# Altium footprint library FootPrintLib.PcbLib: 42 footprints (part 1 of 3)
Each footprint in its own frame and in the unit in brackets; x right, y up, seen from the top. Pads: shape width x height; smd on the part's side, far side on the other; paste and mask are expansions set on the pad; w line width, h text height; cw(c..) or ccw(c..) is an arc to the next point about the centre after c.
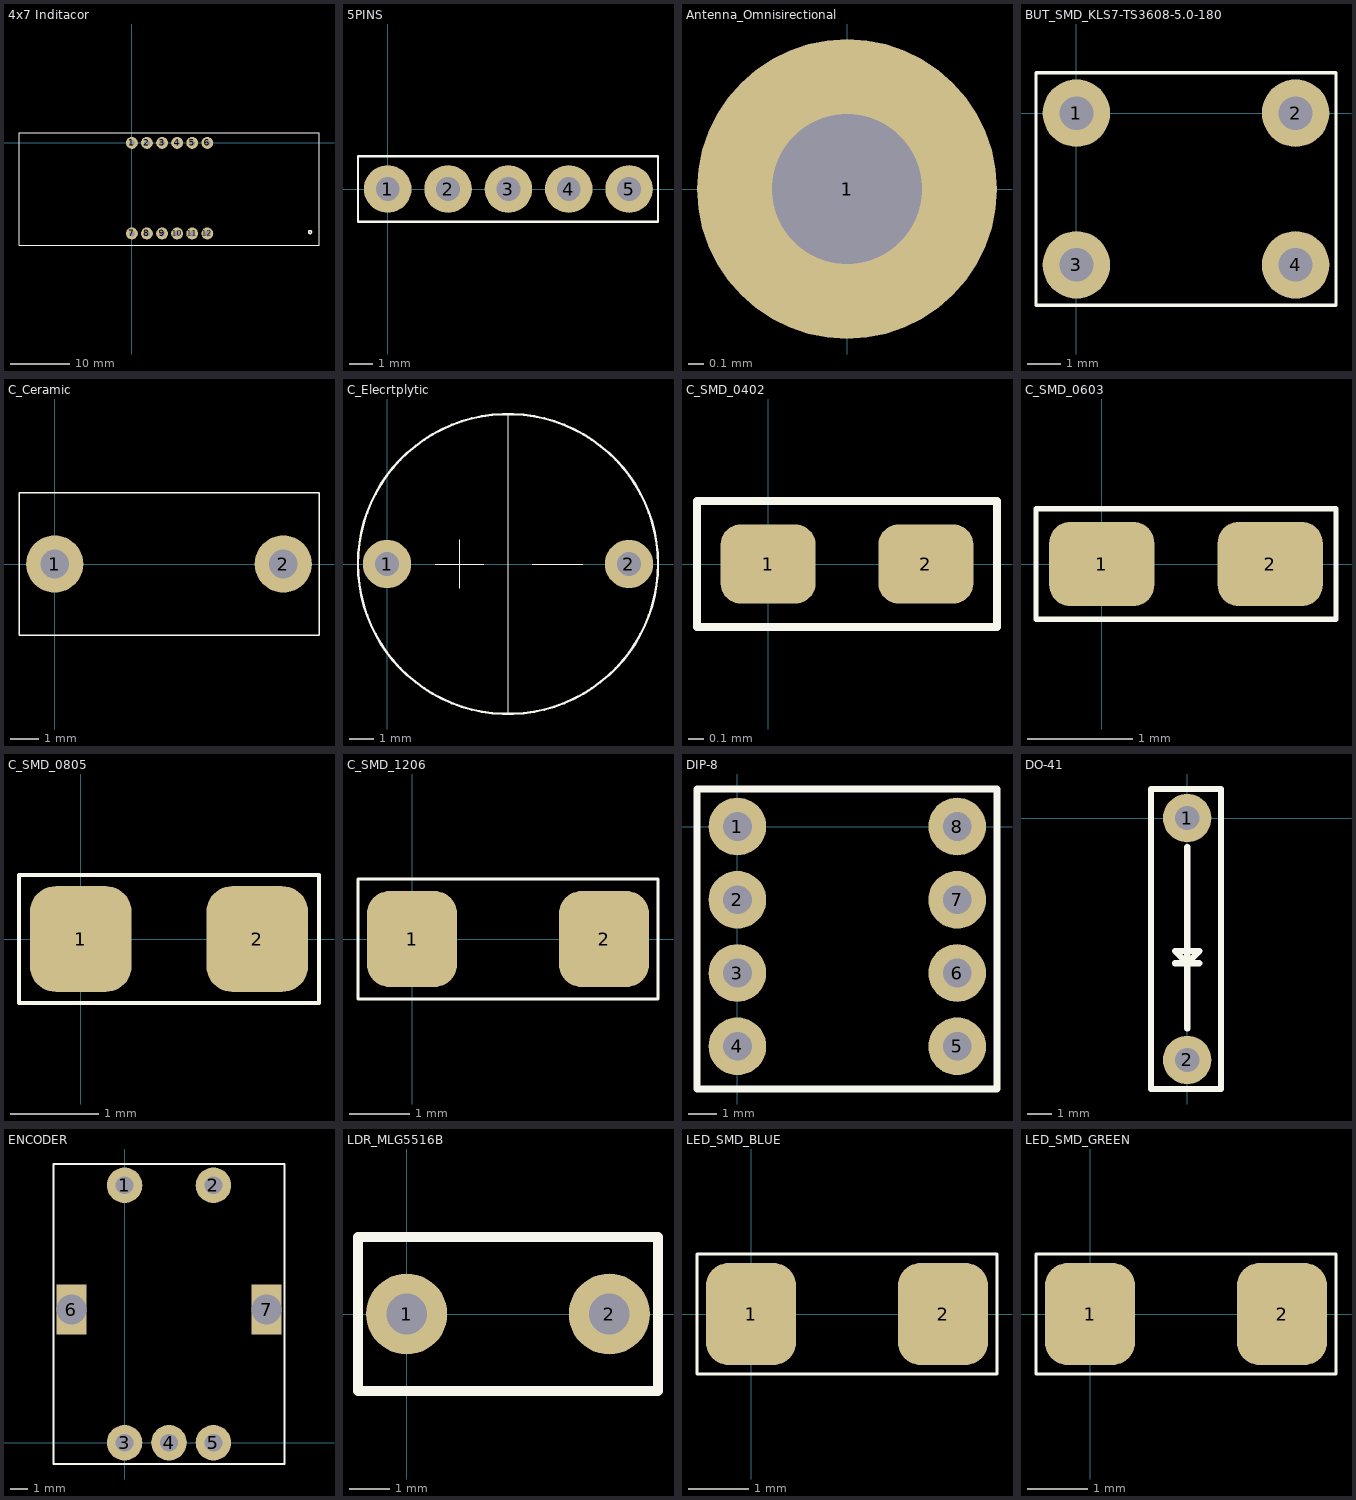
[diagram p0: the footprints below, top view; thin cyan lines are the x and y axes]

## 4x7 Inditacor [mm]
pads (12):
  round 2 hole 1: 1(0,0) 2(2.54,0) 3(5.08,0) 4(7.62,0) 5(10.16,0) 6(12.7,0) 7(0,-15.24) 8(2.54,-15.24) 9(5.08,-15.24) 10(7.62,-15.24) 11(10.16,-15.24) 12(12.7,-15.24)
Top Overlay:
  circle w0.254: c30,-15 r0.25
  lines w0.1: -19,-17.25 31.5,-17.25 31.5,1.75 -19,1.75 -19,-17.25
3D body "HSN-5641BS.step": height 8, standoff -6, extent -19,-17.25 31.6,1.75

## 5PINS [mm]
pads (5):
  round 2 hole 1: 1(0,0) 2(2.54,0) 3(5.08,0) 4(7.62,0) 5(10.16,0)
Top Overlay:
  lines w0.1: -1.25,-1.375 11.375,-1.375 11.375,1.375 -1.25,1.375 -1.25,-1.375
3D body "PinHeader_1x05_P2.54mm_Horizontal_SMD_Right.step": height 8.61, standoff -2.89, extent -1.23,-1.325 11.43,1.175

## Antenna_Omnisirectional [mm]
pads (1):
  round 2 hole 1: 1(0,0)

## BUT_SMD_KLS7-TS3608-5.0-180 [mm]
pads (4):
  round 2 hole 1: 1(0,0) 2(6.5,0) 3(0,-4.5) 4(6.5,-4.5)
Top Overlay:
  lines w0.1: -1.2,-5.7 -1.2,1.2 7.7,1.2 7.7,-5.7 -1.2,-5.7
3D body "KLS7-TS6601-7.0-180.SLDPRT": height 8, standoff -2.5, extent -0.688,-5.4 7.088,0.8

## C_Ceramic [mm]
pads (2):
  round 2 hole 1: 1(0,0) 2(8,0)
Top Overlay:
  lines w0.05: -1.25,-2.5 9.25,-2.5 9.25,2.5 -1.25,2.5 -1.25,-2.5
3D body "Cap Tan TH Heigth 13,8mm Radial Dipped T354.stp": height 13.84, standoff -3.11, extent 1.21,-2.326 6.79,2.326

## C_Elecrtplytic [mm]
pads (2):
  round 2 hole 1: 1(0,0) 2(10,0)
Top Overlay:
  circle w0.1: c5,0 r6.2
  lines w0.05: 2,0 4,0 ; 3,-1 3,1 ; 5,-6.2 5,6.2 ; 6,0 8.1,0
3D body "47uF 50V electr 6.3 x11mm  -P.diameter 3.2mm.stp": height 11, standoff -4.1, extent 1.85,-3.141 8.15,3.141

## C_SMD_0402 [mm]
pads (2):
  rrect50% 0.6x0.5 smd: 1(0,0) 2(1,0)
Top Overlay:
  lines w0.05: -0.45,-0.4 -0.45,0.4 1.45,0.4 1.45,-0.4 -0.45,-0.4
3D body "0402_CA_CB_CC_CD.stp": height 0.5, standoff 0, extent 0,-0.25 1,0.25

## C_SMD_0603 [mm]
pads (2):
  rrect50% 1x0.8 smd: 1(0,0) 2(1.6,0)
Top Overlay:
  lines w0.05: -0.625,-0.525 -0.625,0.525 2.225,0.525 2.225,-0.525 -0.625,-0.525
3D body "0603_DA_DB_DC.stp": height 0.8, standoff 0, extent 0,-0.4 1.6,0.4

## C_SMD_0805 [mm]
pads (2):
  rrect50% 1.15x1.2 smd: 1(0,0) 2(2,0)
Top Overlay:
  lines w0.05: -0.7,-0.725 -0.7,0.725 2.7,0.725 2.7,-0.725 -0.7,-0.725
3D body "0805_EA.stp": height 0.85, standoff 0, extent 0,-0.625 2,0.625

## C_SMD_1206 [mm]
pads (2):
  rrect50% 1.5x1.6 smd: 1(0,0) 2(3.2,0)
Top Overlay:
  lines w0.05: -0.9,-1 4.1,-1 4.1,1 -0.9,1 -0.9,-1
3D body "1206_FA.stp": height 1.15, standoff 0, extent 0,-0.8 3.2,0.8

## DIP-8 [mm]
pads (8):
  round 2 hole 1: 1(0,0) 2(0,-2.54) 3(0,-5.08) 4(0,-7.62) 5(7.62,-7.62) 6(7.62,-5.08) 7(7.62,-2.54) 8(7.62,0)
Top Overlay:
  lines w0.254: -1.4,-9.1 -1.4,1.3 9,1.3 9,-9.1 -1.4,-9.1
3D body "DIP8.STEP": height 4.39, standoff -1.46, extent -0.07,-8.4 7.8,0.8

## DO-41 [mm]
pads (2):
  round 2 hole 1: 1(0,0) 2(0,-10)
Top Overlay:
  lines w0.254: -0.5,-6 0.5,-6 ; 0,-8.7 0,-1.2 ; 0,-6 0.5,-5.5 ; 0,-6 -0.5,-5.5 0.5,-5.5 ; 0,-6 0,-6 ; 0.5,-5.5 0.5,-5.5 ; -1.5,-11.2 1.4,-11.2 1.4,1.2 -1.5,1.2 -1.5,-11.2
3D body "Diodo 1N4007.STEP": height 3.35, standoff -1.38, extent -1.376,-10.577 1.326,0.483

## ENCODER [mm]
pads (7):
  round 2 hole 1: 1(0,14.5) 2(5,14.5) 3(0,0) 4(2.5,0) 5(5,0)
  rect 1.7x2.8 hole 1.7 square: 6(-3,7.5) 7(8,7.5)
Top Overlay:
  lines w0.1: -4,-1.2 9,-1.2 9,15.7 0,15.7 -4,15.7 -4,-1.2
3D body "EC11 Rotary Encoder Dode Switch-15mm .STEP": height 19.5, standoff -3.65, extent -3.356,-0.3 8.356,14.65

## LDR_MLG5516B [mm]
pads (2):
  round 2 hole 1: 1(0,0) 2(5,0)
Top Overlay:
  lines w0.254: -1.2,-1.9 -1.2,1.9 6.2,1.9 6.2,-1.9 -1.2,-1.9
3D body "LDR_2.54.step": height 5, standoff -4.5, extent 0.182,-1.8 4.818,1.8

## LED_SMD_BLUE [mm]
pads (2):
  rrect50% 1.5x1.7 smd: 1(0,0) 2(3.2,0)
Top Overlay:
  lines w0.05: -0.9,-1 4.1,-1 4.1,1 -0.9,1 -0.9,-1
3D body "LED_1206_Blue.stp": height 0.9, standoff 0, extent -0.06,-0.825 3.21,0.825

## LED_SMD_GREEN [mm]
pads (2):
  rrect50% 1.5x1.7 smd: 1(0,0) 2(3.2,0)
Top Overlay:
  lines w0.05: -0.9,-1 4.1,-1 4.1,1 -0.9,1 -0.9,-1
3D body "LED_1206_Green.stp": height 0.9, standoff 0, extent -0.035,-0.825 3.235,0.825